# Altium integrated library FSC Logic Gate.IntLib: 323 symbols (part 7 of 8)
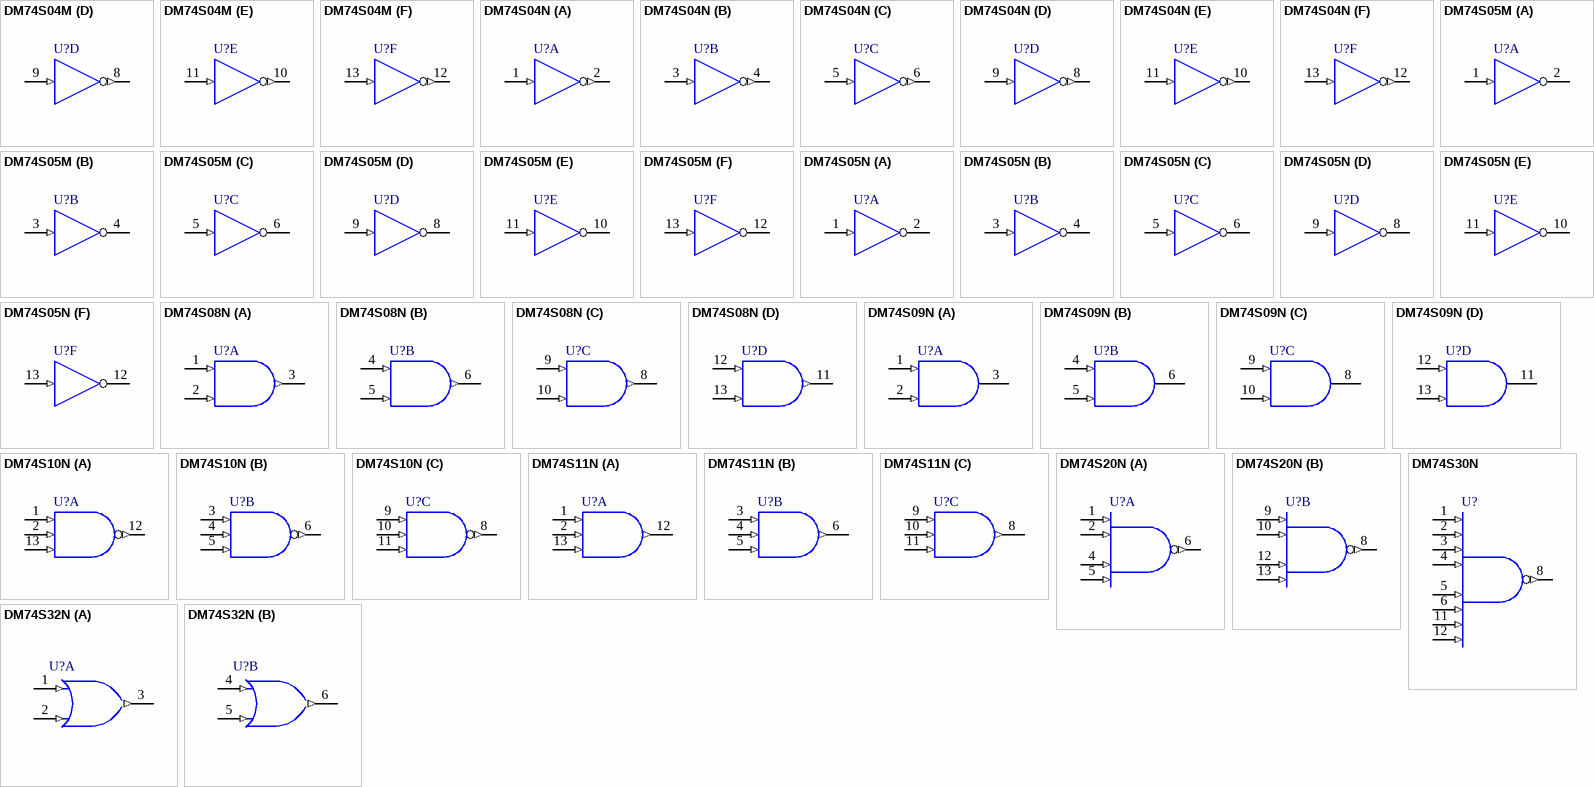
[diagram p37: symbols DM74S04M to DM74S32N]

## DM74S05N
designator U?
Hex Inverter with Open-Collector Output, 14-Pin PDIP; IC_Technology: S; Published: 17-Jul-2002; LatestRevisionDate: 29-May-2009; LatestRevisionNote: Component Body Added.; DatasheetVersion: Mar-1998; PackageVersion: 2000; PackageReference: N14A; Publisher: Altium Limited; PackageDescription: DIP, 14-Pin, Row Spacing 7.62 mm, Pitch 2.54 mm; ComponentLink1Description: Manufacturer Link; ComponentLink1URL: http://www.fairchildsemi.com/
footprint N14A (DIP, 14-Leads, Row Spacing 7.62mm, Pitch 2.54mm, Body 19.18x6.35mm)
3D model N14A (DIP, 14-Pin, Row Spacing 7.62 mm, Pitch 2.54 mm)
simulation model FSC_74LS05 (SIMCODE)
signal-integrity model DM74S05N
pins on every part: 7 GND (power) hidden to GND, 14 VCC (power) hidden to VCC
part A pins: 1 A (in), 2 Y (oc)
part B pins: 3 A (in), 4 Y (oc)
part C pins: 5 A (in), 6 Y (oc)
part D pins: 8 Y (oc), 9 A (in)
part E pins: 10 Y (oc), 11 A (in)
part F pins: 12 Y (oc), 13 A (in)

## DM74S08N
designator U?
Quad 2-Input AND Gate, 14-Pin PDIP; IC_Technology: S; Published: 17-Jul-2002; LatestRevisionDate: 29-May-2009; LatestRevisionNote: Component Body Added.; DatasheetVersion: Mar-1998; PackageVersion: 2000; PackageReference: N14A; Publisher: Altium Limited; PackageDescription: DIP, 14-Pin, Row Spacing 7.62 mm, Pitch 2.54 mm; ComponentLink1Description: Manufacturer Link; ComponentLink1URL: http://www.fairchildsemi.com/
footprint N14A (DIP, 14-Leads, Row Spacing 7.62mm, Pitch 2.54mm, Body 19.18x6.35mm)
3D model N14A (DIP, 14-Pin, Row Spacing 7.62 mm, Pitch 2.54 mm)
simulation model FSC_74LS08 (SIMCODE)
signal-integrity model DM74S08N
pins on every part: 7 GND (power) hidden to GND, 14 VCC (power) hidden to VCC
part A pins: 1 A (in), 2 B (in), 3 Y (out)
part B pins: 4 A (in), 5 B (in), 6 Y (out)
part C pins: 8 Y (out), 9 A (in), 10 B (in)
part D pins: 11 Y (out), 12 A (in), 13 B (in)

## DM74S09N
designator U?
Quad 2-Input AND Gate with Open-Collector Output, 14-Pin PDIP; IC_Technology: S; Published: 17-Jul-2002; LatestRevisionDate: 29-May-2009; LatestRevisionNote: Component Body Added.; DatasheetVersion: Mar-1998; PackageVersion: 2000; PackageReference: N14A; Publisher: Altium Limited; PackageDescription: DIP, 14-Pin, Row Spacing 7.62 mm, Pitch 2.54 mm; ComponentLink1Description: Manufacturer Link; ComponentLink1URL: http://www.fairchildsemi.com/
footprint N14A (DIP, 14-Leads, Row Spacing 7.62mm, Pitch 2.54mm, Body 19.18x6.35mm)
3D model N14A (DIP, 14-Pin, Row Spacing 7.62 mm, Pitch 2.54 mm)
simulation model FSC_74LS09 (SIMCODE)
signal-integrity model DM74S09N
pins on every part: 7 GND (power) hidden to GND, 14 VCC (power) hidden to VCC
part A pins: 1 A (in), 2 B (in), 3 Y (oc)
part B pins: 4 A (in), 5 B (in), 6 Y (oc)
part C pins: 8 Y (oc), 9 A (in), 10 B (in)
part D pins: 11 Y (oc), 12 A (in), 13 B (in)

## DM74S10N
designator U?
Triple 3-Input NAND Gate, 14-Pin PDIP; IC_Technology: S; Published: 17-Jul-2002; LatestRevisionDate: 29-May-2009; LatestRevisionNote: Component Body Added.; DatasheetVersion: Mar-1998; PackageVersion: 2000; PackageReference: N14A; Publisher: Altium Limited; PackageDescription: DIP, 14-Pin, Row Spacing 7.62 mm, Pitch 2.54 mm; ComponentLink1Description: Manufacturer Link; ComponentLink1URL: http://www.fairchildsemi.com/
footprint N14A (DIP, 14-Leads, Row Spacing 7.62mm, Pitch 2.54mm, Body 19.18x6.35mm)
3D model N14A (DIP, 14-Pin, Row Spacing 7.62 mm, Pitch 2.54 mm)
signal-integrity model DM74S10N
pins on every part: 7 GND (power) hidden to GND, 14 VCC (power) hidden to VCC
part A pins: 1 A (in), 2 B (in), 12 Y (out), 13 C (in)
part B pins: 3 A (in), 4 B (in), 5 C (in), 6 Y (out)
part C pins: 8 Y (out), 9 A (in), 10 B (in), 11 C (in)

## DM74S11N
designator U?
Triple 3-Input AND Gate, 14-Pin PDIP; IC_Technology: S; Published: 17-Jul-2002; LatestRevisionDate: 29-May-2009; LatestRevisionNote: Component Body Added.; DatasheetVersion: Mar-1998; PackageVersion: 2000; PackageReference: N14A; Publisher: Altium Limited; PackageDescription: DIP, 14-Pin, Row Spacing 7.62 mm, Pitch 2.54 mm; ComponentLink1Description: Manufacturer Link; ComponentLink1URL: http://www.fairchildsemi.com/
footprint N14A (DIP, 14-Leads, Row Spacing 7.62mm, Pitch 2.54mm, Body 19.18x6.35mm)
3D model N14A (DIP, 14-Pin, Row Spacing 7.62 mm, Pitch 2.54 mm)
simulation model FSC_74LS11 (SIMCODE)
signal-integrity model DM74S11N
pins on every part: 7 GND (power) hidden to GND, 14 VCC (power) hidden to VCC
part A pins: 1 A (in), 2 B (in), 12 Y (out), 13 C (in)
part B pins: 3 A (in), 4 B (in), 5 C (in), 6 Y (out)
part C pins: 8 Y (out), 9 A (in), 10 B (in), 11 C (in)

## DM74S20N
designator U?
Dual 4-Input NAND Gate, 14-Pin PDIP; IC_Technology: S; Note: Pins 3 and 11 are NC & not drawn.; Published: 17-Jul-2002; LatestRevisionDate: 29-May-2009; LatestRevisionNote: Component Body Added.; DatasheetVersion: Mar-1998; PackageVersion: 2000; PackageReference: N14A; Publisher: Altium Limited; PackageDescription: DIP, 14-Pin, Row Spacing 7.62 mm, Pitch 2.54 mm; ComponentLink1Description: Manufacturer Link; ComponentLink1URL: http://www.fairchildsemi.com/
footprint N14A (DIP, 14-Leads, Row Spacing 7.62mm, Pitch 2.54mm, Body 19.18x6.35mm)
3D model N14A (DIP, 14-Pin, Row Spacing 7.62 mm, Pitch 2.54 mm)
simulation model FSC_74LS20 (SIMCODE)
signal-integrity model DM74S20N
pins on every part: 7 GND (power) hidden to GND, 14 VCC (power) hidden to VCC
part A pins: 1 A (in), 2 B (in), 4 C (in), 5 D (in), 6 Y (out)
part B pins: 8 Y (out), 9 A (in), 10 B (in), 12 C (in), 13 D (in)

## DM74S30N
designator U?
8-Input NAND Gate, 14-Pin PDIP; IC_Technology: S; Note: Pins 9,10 and 13 are NC & not drawn.; Published: 17-Jul-2002; LatestRevisionDate: 29-May-2009; LatestRevisionNote: Component Body Added.; DatasheetVersion: Mar-1998; PackageVersion: 2000; PackageReference: N14A; Publisher: Altium Limited; PackageDescription: DIP, 14-Pin, Row Spacing 7.62 mm, Pitch 2.54 mm; ComponentLink1Description: Manufacturer Link; ComponentLink1URL: http://www.fairchildsemi.com/
footprint N14A (DIP, 14-Leads, Row Spacing 7.62mm, Pitch 2.54mm, Body 19.18x6.35mm)
3D model N14A (DIP, 14-Pin, Row Spacing 7.62 mm, Pitch 2.54 mm)
simulation model FSC_74LS30 (SIMCODE)
signal-integrity model DM74S30N
pins: 1 A (in), 2 B (in), 3 C (in), 4 D (in), 5 E (in), 6 F (in), 7 GND (power) hidden to GND, 8 Y (out), 11 G (in), 12 H (in), 14 VCC (power) hidden to VCC

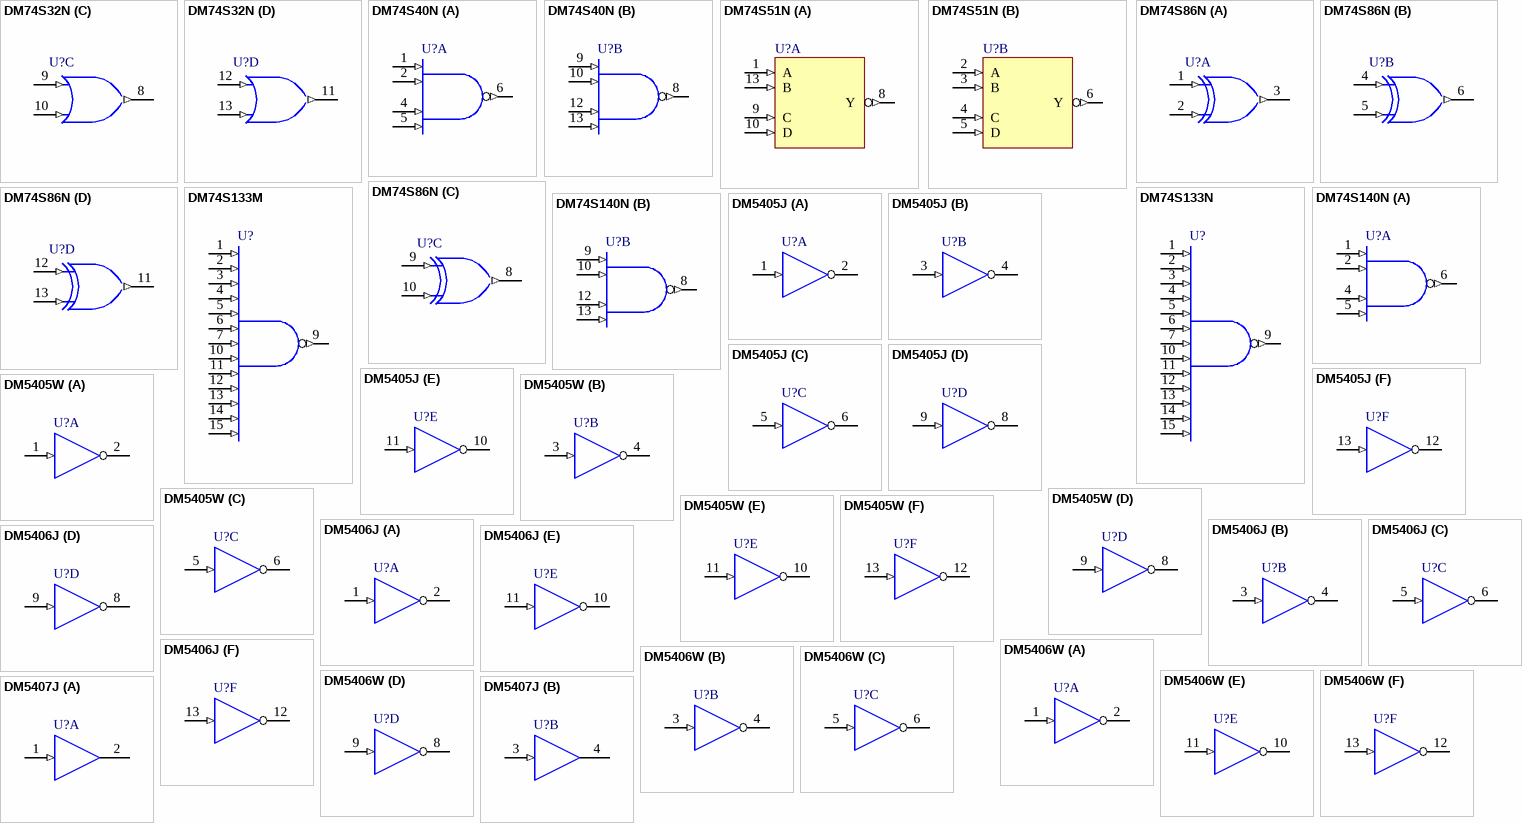
[diagram p28: symbols DM74S32N to DM5407J]

## DM74S32N
designator U?
Quad 2-Input OR Gate, 14-Pin PDIP; IC_Technology: S; Published: 17-Jul-2002; LatestRevisionDate: 29-May-2009; LatestRevisionNote: Component Body Added.; DatasheetVersion: Mar-1998; PackageVersion: 2000; PackageReference: N14A; Publisher: Altium Limited; PackageDescription: DIP, 14-Pin, Row Spacing 7.62 mm, Pitch 2.54 mm; ComponentLink1Description: Manufacturer Link; ComponentLink1URL: http://www.fairchildsemi.com/
footprint N14A (DIP, 14-Leads, Row Spacing 7.62mm, Pitch 2.54mm, Body 19.18x6.35mm)
3D model N14A (DIP, 14-Pin, Row Spacing 7.62 mm, Pitch 2.54 mm)
signal-integrity model DM74S32N
pins on every part: 7 GND (power) hidden to GND, 14 VCC (power) hidden to VCC
part A pins: 1 A (in), 2 B (in), 3 Y (out)
part B pins: 4 A (in), 5 B (in), 6 Y (out)
part C pins: 8 Y (out), 9 A (in), 10 B (in)
part D pins: 11 Y (out), 12 A (in), 13 B (in)

## DM74S40N
designator U?
Dual 4-Input NAND Buffer, 14-Pin PDIP; IC_Technology: S; Note: Pins 3 and 11 are NC & not drawn.; Published: 17-Jul-2002; LatestRevisionDate: 29-May-2009; LatestRevisionNote: Component Body Added.; DatasheetVersion: Mar-1998; PackageVersion: 2000; PackageReference: N14A; Publisher: Altium Limited; PackageDescription: DIP, 14-Pin, Row Spacing 7.62 mm, Pitch 2.54 mm; ComponentLink1Description: Manufacturer Link; ComponentLink1URL: http://www.fairchildsemi.com/
footprint N14A (DIP, 14-Leads, Row Spacing 7.62mm, Pitch 2.54mm, Body 19.18x6.35mm)
3D model N14A (DIP, 14-Pin, Row Spacing 7.62 mm, Pitch 2.54 mm)
signal-integrity model DM74S40N
pins on every part: 7 GND (power) hidden to GND, 14 VCC (power) hidden to VCC
part A pins: 1 A (in), 2 B (in), 4 C (in), 5 D (in), 6 Y (out)
part B pins: 8 Y (out), 9 A (in), 10 B (in), 12 C (in), 13 D (in)

## DM74S51N
designator U?
Dual 2-Wide 2-Input AND-OR Invert Gate, 14-Pin PDIP; IC_Technology: S; Note: Pins 11 and 12 are NC & not drawn; Published: 17-Jul-2002; LatestRevisionDate: 29-May-2009; LatestRevisionNote: Component Body Added.; DatasheetVersion: Mar-1998; PackageVersion: 2000; PackageReference: N14A; Publisher: Altium Limited; PackageDescription: DIP, 14-Pin, Row Spacing 7.62 mm, Pitch 2.54 mm; ComponentLink1Description: Manufacturer Link; ComponentLink1URL: http://www.fairchildsemi.com/
footprint N14A (DIP, 14-Leads, Row Spacing 7.62mm, Pitch 2.54mm, Body 19.18x6.35mm)
3D model N14A (DIP, 14-Pin, Row Spacing 7.62 mm, Pitch 2.54 mm)
signal-integrity model DM74S51N
pins on every part: 7 GND (power) hidden to GND, 14 VCC (power) hidden to VCC
part A pins: 1 A (in), 8 Y (out), 9 C (in), 10 D (in), 13 B (in)
part B pins: 2 A (in), 3 B (in), 4 C (in), 5 D (in), 6 Y (out)

## DM74S86N
designator U?
Quad 2-Input XOR Gate, 14-Pin PDIP; IC_Technology: S; Published: 17-Jul-2002; LatestRevisionDate: 29-May-2009; LatestRevisionNote: Component Body Added.; DatasheetVersion: Mar-1998; PackageVersion: 2000; PackageReference: N14A; Publisher: Altium Limited; PackageDescription: DIP, 14-Pin, Row Spacing 7.62 mm, Pitch 2.54 mm; ComponentLink1Description: Manufacturer Link; ComponentLink1URL: http://www.fairchildsemi.com/
footprint N14A (DIP, 14-Leads, Row Spacing 7.62mm, Pitch 2.54mm, Body 19.18x6.35mm)
3D model N14A (DIP, 14-Pin, Row Spacing 7.62 mm, Pitch 2.54 mm)
simulation model FSC_74LS86 (SIMCODE)
signal-integrity model DM74S86N
pins on every part: 7 GND (power) hidden to GND, 14 VCC (power) hidden to VCC
part A pins: 1 A (in), 2 B (in), 3 Y (out)
part B pins: 4 A (in), 5 B (in), 6 Y (out)
part C pins: 8 Y (out), 9 A (in), 10 B (in)
part D pins: 11 Y (out), 12 A (in), 13 B (in)

## DM74S133M
designator U?
13-Input NAND Gate, 16-Pin SOIC; IC_Technology: S; Published: 17-Jul-2002; LatestRevisionDate: 13-Apr-2006; LatestRevisionNote: IPC-7351 Footprint Added.; DatasheetVersion: Mar-1998; PackageVersion: 2000; PackageReference: M16A; Publisher: Altium Limited; PackageDescription: 16-Pin Small Outline Integrated Circuit 1.27 mm Pitch; Code_IPC: SOIC127P600-16; ComponentLink1Description: Manufacturer Link; ComponentLink1URL: http://www.fairchildsemi.com/
footprint M16A_N (SOIC, 16-Leads, Body 9.9x3.9mm, Pitch 1.27mm, IPC Medium Density)
footprint M16A_L (SOIC, 16-Leads, Body 9.9x3.9mm, Pitch 1.27mm, IPC High Density)
footprint M16A_M (SOIC, 16-Leads, Body 9.9x3.9mm, Pitch 1.27mm, IPC Low Density)
3D model M16A (16-Pin Small Outline Integrated Circuit 1.27 mm Pitch)
simulation model FSC_74S133 (SIMCODE)
signal-integrity model DM74S133M
pins: 1 A (in), 2 B (in), 3 C (in), 4 D (in), 5 E (in), 6 F (in), 7 G (in), 8 GND (power) hidden to GND, 9 Y (out), 10 H (in), 11 I (in), 12 J (in), 13 K (in), 14 L (in), 15 M (in), 16 VCC (power) hidden to VCC

## DM74S133N
designator U?
13-Input NAND Gate, 16-Pin PDIP; IC_Technology: S; Published: 17-Jul-2002; LatestRevisionDate: 29-May-2009; LatestRevisionNote: Component Body Added.; DatasheetVersion: Mar-1998; PackageVersion: 2000; PackageReference: N16E; Publisher: Altium Limited; PackageDescription: DIP, 16-Pin, Row Spacing 7.62 mm, Pitch 2.54 mm; ComponentLink1Description: Manufacturer Link; ComponentLink1URL: http://www.fairchildsemi.com/
footprint N16E (DIP, 16-Leads, Row Spacing 7.62mm, Pitch 2.54mm, Body 19.3x6.35mm)
3D model J16A (DIP, 16-Pin, Row Spacing 7.62 mm, Pitch 2.54 mm)
simulation model FSC_74S133 (SIMCODE)
signal-integrity model DM74S133N
pins: 1 A (in), 2 B (in), 3 C (in), 4 D (in), 5 E (in), 6 F (in), 7 G (in), 8 GND (power) hidden to GND, 9 Y (out), 10 H (in), 11 I (in), 12 J (in), 13 K (in), 14 L (in), 15 M (in), 16 VCC (power) hidden to VCC

## DM74S140N
designator U?
Dual 4-Input NAND 50-Ohm Line Driver, 14-Pin PDIP; IC_Technology: S; Note: Pins 3 and 11 are NC & not drawn.; Published: 17-Jul-2002; LatestRevisionDate: 29-May-2009; LatestRevisionNote: Component Body Added.; DatasheetVersion: Mar-1998; PackageVersion: 2000; PackageReference: N14A; Publisher: Altium Limited; PackageDescription: DIP, 14-Pin, Row Spacing 7.62 mm, Pitch 2.54 mm; ComponentLink1Description: Manufacturer Link; ComponentLink1URL: http://www.fairchildsemi.com/
footprint N14A (DIP, 14-Leads, Row Spacing 7.62mm, Pitch 2.54mm, Body 19.18x6.35mm)
3D model N14A (DIP, 14-Pin, Row Spacing 7.62 mm, Pitch 2.54 mm)
signal-integrity model DM74S140N
pins on every part: 7 GND (power) hidden to GND, 14 VCC (power) hidden to VCC
part A pins: 1 A (in), 2 B (in), 4 C (in), 5 D (in), 6 Y (out)
part B pins: 8 Y (out), 9 A (in), 10 B (in), 12 C (in), 13 D (in)

## DM5405J
designator U?
Hex Inverter with Open-Collector Output, 14-Pin CDIP, Military Grade; IC_Technology: TTL; Published: 17-Jul-2002; LatestRevisionDate: 29-May-2009; LatestRevisionNote: Component Body Added.; DatasheetVersion: Mar-1998; PackageVersion: 2000; PackageReference: J14A; Publisher: Altium Limited; PackageDescription: CerDIP, 14-Pin, Row Spacing 7.62 mm, Pitch 2.54 mm; ComponentLink1Description: Manufacturer Link; ComponentLink1URL: http://www.fairchildsemi.com/
footprint J14A (DIP, 14-Leads, Row Spacing 7.62mm, Pitch 2.54mm, Body 19.56x6.73mm)
3D model J14A (CerDIP, 14-Pin, Row Spacing 7.62 mm, Pitch 2.54 mm)
simulation model FSC_74LS05 (SIMCODE)
signal-integrity model DM5405J
pins on every part: 7 GND (power) hidden to GND, 14 VCC (power) hidden to VCC
part A pins: 1 A (in), 2 Y (oc)
part B pins: 3 A (in), 4 Y (oc)
part C pins: 5 A (in), 6 Y (oc)
part D pins: 8 Y (oc), 9 A (in)
part E pins: 10 Y (oc), 11 A (in)
part F pins: 12 Y (oc), 13 A (in)

## DM5405W
designator U?
Hex Inverter with Open-Collector Output, 14-Pin DFP, Military Grade; IC_Technology: TTL; Published: 17-Jul-2002; LatestRevisionDate: 04-Mar-2005; LatestRevisionNote: Stylized 3D Model Added.; DatasheetVersion: Mar-1998; PackageVersion: 2000; PackageReference: W14B; Publisher: Altium Limited; PackageDescription: DFP; 14 Leads; Body 9.8 x 7.1 mm (LxW max); Pitch 1.27 mm; ComponentLink1Description: Manufacturer Link; ComponentLink1URL: http://www.fairchildsemi.com/
footprint W14B (DFP; 14 Leads; Body 9.8 x 7.1 mm (LxW max); Pitch 1.27 mm)
3D model W14B (DFP; 14 Leads; Body 9.8 x 7.1 mm (LxW max); Pitch 1.27 mm)
simulation model FSC_74LS05 (SIMCODE)
signal-integrity model DM5405W
pins on every part: 7 GND (power) hidden to GND, 14 VCC (power) hidden to VCC
part A pins: 1 A (in), 2 Y (oc)
part B pins: 3 A (in), 4 Y (oc)
part C pins: 5 A (in), 6 Y (oc)
part D pins: 8 Y (oc), 9 A (in)
part E pins: 10 Y (oc), 11 A (in)
part F pins: 12 Y (oc), 13 A (in)

## DM5406J
designator U?
Hex Inverting Buffers with High-Voltage Open-Collector Outputs, 14-Pin CDIP, Military Grade; IC_Technology: TTL; Published: 17-Jul-2002; LatestRevisionDate: 29-May-2009; LatestRevisionNote: Component Body Added.; DatasheetVersion: Mar-1998; PackageVersion: 2000; PackageReference: J14A; Publisher: Altium Limited; PackageDescription: CerDIP, 14-Pin, Row Spacing 7.62 mm, Pitch 2.54 mm; ComponentLink1Description: Manufacturer Link; ComponentLink1URL: http://www.fairchildsemi.com/
footprint J14A (DIP, 14-Leads, Row Spacing 7.62mm, Pitch 2.54mm, Body 19.56x6.73mm)
3D model J14A (CerDIP, 14-Pin, Row Spacing 7.62 mm, Pitch 2.54 mm)
simulation model FSC_7406 (SIMCODE)
signal-integrity model DM5406J
pins on every part: 7 GND (power) hidden to GND, 14 VCC (power) hidden to VCC
part A pins: 1 A (in), 2 Y (oc)
part B pins: 3 A (in), 4 Y (oc)
part C pins: 5 A (in), 6 Y (oc)
part D pins: 8 Y (oc), 9 A (in)
part E pins: 10 Y (oc), 11 A (in)
part F pins: 12 Y (oc), 13 A (in)

## DM5406W
designator U?
Hex Inverting Buffers with High-Voltage Open-Collector Outputs, 14-Pin DFP, Military Grade; IC_Technology: TTL; Published: 17-Jul-2002; LatestRevisionDate: 04-Mar-2005; LatestRevisionNote: Stylized 3D Model Added.; DatasheetVersion: Mar-1998; PackageVersion: 2000; PackageReference: W14B; Publisher: Altium Limited; PackageDescription: DFP; 14 Leads; Body 9.8 x 7.1 mm (LxW max); Pitch 1.27 mm; ComponentLink1Description: Manufacturer Link; ComponentLink1URL: http://www.fairchildsemi.com/
footprint W14B (DFP; 14 Leads; Body 9.8 x 7.1 mm (LxW max); Pitch 1.27 mm)
3D model W14B (DFP; 14 Leads; Body 9.8 x 7.1 mm (LxW max); Pitch 1.27 mm)
simulation model FSC_7406 (SIMCODE)
signal-integrity model DM5406W
pins on every part: 7 GND (power) hidden to GND, 14 VCC (power) hidden to VCC
part A pins: 1 A (in), 2 Y (oc)
part B pins: 3 A (in), 4 Y (oc)
part C pins: 5 A (in), 6 Y (oc)
part D pins: 8 Y (oc), 9 A (in)
part E pins: 10 Y (oc), 11 A (in)
part F pins: 12 Y (oc), 13 A (in)

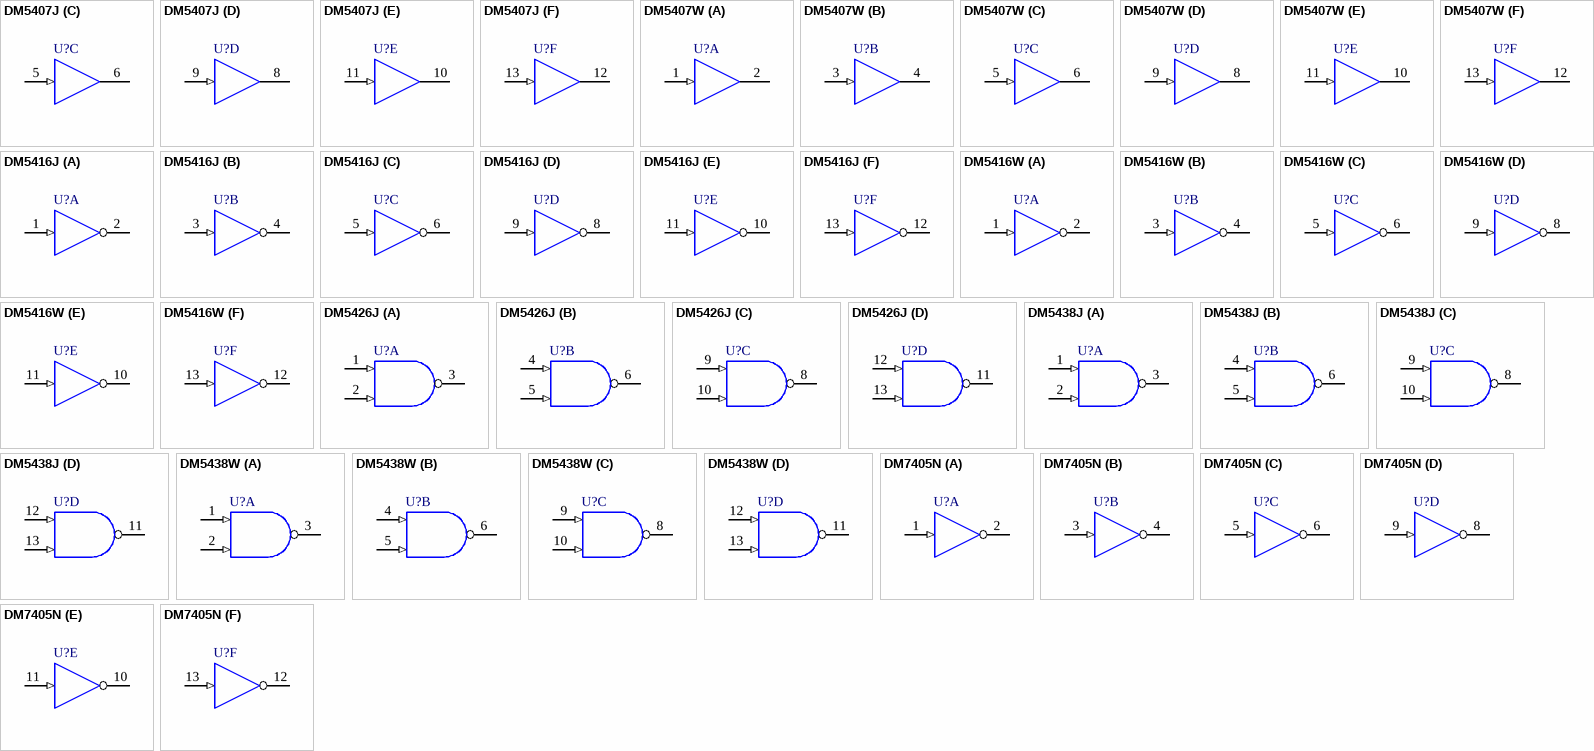
[diagram p29: symbols DM5407J to DM7405N]

## DM5407J
designator U?
Hex Buffer with High-Voltage Open-Collector Outputs, 14-Pin CDIP, Military Grade; IC_Technology: TTL; Published: 17-Jul-2002; LatestRevisionDate: 29-May-2009; LatestRevisionNote: Component Body Added.; DatasheetVersion: Mar-1998; PackageVersion: 2000; PackageReference: J14A; Publisher: Altium Limited; PackageDescription: CerDIP, 14-Pin, Row Spacing 7.62 mm, Pitch 2.54 mm; ComponentLink1Description: Manufacturer Link; ComponentLink1URL: http://www.fairchildsemi.com/
footprint J14A (DIP, 14-Leads, Row Spacing 7.62mm, Pitch 2.54mm, Body 19.56x6.73mm)
3D model J14A (CerDIP, 14-Pin, Row Spacing 7.62 mm, Pitch 2.54 mm)
simulation model FSC_7407 (SIMCODE)
signal-integrity model DM5407J
pins on every part: 7 GND (power) hidden to GND, 14 VCC (power) hidden to VCC
part A pins: 1 A (in), 2 Y (oc)
part B pins: 3 A (in), 4 Y (oc)
part C pins: 5 A (in), 6 Y (oc)
part D pins: 8 Y (oc), 9 A (in)
part E pins: 10 Y (oc), 11 A (in)
part F pins: 12 Y (oc), 13 A (in)

## DM5407W
designator U?
Hex Buffer with High-Voltage Open-Collector Outputs, 14-Pin DFP, Military Grade; IC_Technology: TTL; Published: 17-Jul-2002; LatestRevisionDate: 04-Mar-2005; LatestRevisionNote: Stylized 3D Model Added.; DatasheetVersion: Mar-1998; PackageVersion: 2000; PackageReference: W14B; Publisher: Altium Limited; PackageDescription: DFP; 14 Leads; Body 9.8 x 7.1 mm (LxW max); Pitch 1.27 mm; ComponentLink1Description: Manufacturer Link; ComponentLink1URL: http://www.fairchildsemi.com/
footprint W14B (DFP; 14 Leads; Body 9.8 x 7.1 mm (LxW max); Pitch 1.27 mm)
3D model W14B (DFP; 14 Leads; Body 9.8 x 7.1 mm (LxW max); Pitch 1.27 mm)
simulation model FSC_7407 (SIMCODE)
signal-integrity model DM5407W
pins on every part: 7 GND (power) hidden to GND, 14 VCC (power) hidden to VCC
part A pins: 1 A (in), 2 Y (oc)
part B pins: 3 A (in), 4 Y (oc)
part C pins: 5 A (in), 6 Y (oc)
part D pins: 8 Y (oc), 9 A (in)
part E pins: 10 Y (oc), 11 A (in)
part F pins: 12 Y (oc), 13 A (in)

## DM5416J
designator U?
Hex Inverting Buffers with High-Voltage Open-Collector Outputs, 14-Pin CDIP, Military Grade; IC_Technology: TTL; Published: 17-Jul-2002; LatestRevisionDate: 29-May-2009; LatestRevisionNote: Component Body Added.; DatasheetVersion: Mar-1998; PackageVersion: 2000; PackageReference: J14A; Publisher: Altium Limited; PackageDescription: CerDIP, 14-Pin, Row Spacing 7.62 mm, Pitch 2.54 mm; ComponentLink1Description: Manufacturer Link; ComponentLink1URL: http://www.fairchildsemi.com/
footprint J14A (DIP, 14-Leads, Row Spacing 7.62mm, Pitch 2.54mm, Body 19.56x6.73mm)
3D model J14A (CerDIP, 14-Pin, Row Spacing 7.62 mm, Pitch 2.54 mm)
simulation model FSC_7406 (SIMCODE)
signal-integrity model DM5416J
pins on every part: 7 GND (power) hidden to GND, 14 VCC (power) hidden to VCC
part A pins: 1 A (in), 2 Y (oc)
part B pins: 3 A (in), 4 Y (oc)
part C pins: 5 A (in), 6 Y (oc)
part D pins: 8 Y (oc), 9 A (in)
part E pins: 10 Y (oc), 11 A (in)
part F pins: 12 Y (oc), 13 A (in)

## DM5416W
designator U?
Hex Inverting Buffers with High-Voltage Open-Collector Outputs, 14-Pin DFP, Military Grade; IC_Technology: TTL; Published: 17-Jul-2002; LatestRevisionDate: 04-Mar-2005; LatestRevisionNote: Stylized 3D Model Added.; DatasheetVersion: Mar-1998; PackageVersion: 2000; PackageReference: W14B; Publisher: Altium Limited; PackageDescription: DFP; 14 Leads; Body 9.8 x 7.1 mm (LxW max); Pitch 1.27 mm; ComponentLink1Description: Manufacturer Link; ComponentLink1URL: http://www.fairchildsemi.com/
footprint W14B (DFP; 14 Leads; Body 9.8 x 7.1 mm (LxW max); Pitch 1.27 mm)
3D model W14B (DFP; 14 Leads; Body 9.8 x 7.1 mm (LxW max); Pitch 1.27 mm)
simulation model FSC_7406 (SIMCODE)
signal-integrity model DM5416W
pins on every part: 7 GND (power) hidden to GND, 14 VCC (power) hidden to VCC
part A pins: 1 A (in), 2 Y (oc)
part B pins: 3 A (in), 4 Y (oc)
part C pins: 5 A (in), 6 Y (oc)
part D pins: 8 Y (oc), 9 A (in)
part E pins: 10 Y (oc), 11 A (in)
part F pins: 12 Y (oc), 13 A (in)

## DM5426J
designator U?
Quad 2-Input NAND Gate with High-Voltage Open-Collector Output, 14-Pin CDIP, Military Grade; IC_Technology: TTL; Published: 17-Jul-2002; LatestRevisionDate: 29-May-2009; LatestRevisionNote: Component Body Added.; DatasheetVersion: Mar-1998; PackageVersion: 2000; PackageReference: J14A; Publisher: Altium Limited; PackageDescription: CerDIP, 14-Pin, Row Spacing 7.62 mm, Pitch 2.54 mm; ComponentLink1Description: Manufacturer Link; ComponentLink1URL: http://www.fairchildsemi.com/
footprint J14A (DIP, 14-Leads, Row Spacing 7.62mm, Pitch 2.54mm, Body 19.56x6.73mm)
3D model J14A (CerDIP, 14-Pin, Row Spacing 7.62 mm, Pitch 2.54 mm)
simulation model FSC_74LS26 (SIMCODE)
signal-integrity model DM5426J
pins on every part: 7 GND (power) hidden to GND, 14 VCC (power) hidden to VCC
part A pins: 1 A (in), 2 B (in), 3 Y (oc)
part B pins: 4 A (in), 5 B (in), 6 Y (oc)
part C pins: 8 Y (oc), 9 A (in), 10 B (in)
part D pins: 11 Y (oc), 12 A (in), 13 B (in)

## DM5438J
designator U?
Quad 2-Input NAND Buffer with Open-Collector Output, 14-Pin CDIP, Military Grade; IC_Technology: TTL; Published: 17-Jul-2002; LatestRevisionDate: 29-May-2009; LatestRevisionNote: Component Body Added.; DatasheetVersion: Mar-1998; PackageVersion: 2000; PackageReference: J14A; Publisher: Altium Limited; PackageDescription: CerDIP, 14-Pin, Row Spacing 7.62 mm, Pitch 2.54 mm; ComponentLink1Description: Manufacturer Link; ComponentLink1URL: http://www.fairchildsemi.com/
footprint J14A (DIP, 14-Leads, Row Spacing 7.62mm, Pitch 2.54mm, Body 19.56x6.73mm)
3D model J14A (CerDIP, 14-Pin, Row Spacing 7.62 mm, Pitch 2.54 mm)
simulation model FSC_74LS38 (SIMCODE)
signal-integrity model DM5438J
pins on every part: 7 GND (power) hidden to GND, 14 VCC (power) hidden to VCC
part A pins: 1 A (in), 2 B (in), 3 Y (oc)
part B pins: 4 A (in), 5 B (in), 6 Y (oc)
part C pins: 8 Y (oc), 9 A (in), 10 B (in)
part D pins: 11 Y (oc), 12 A (in), 13 B (in)

## DM5438W
designator U?
Quad 2-Input NAND Buffer with Open-Collector Output, 14-Pin DFP, Military Grade; IC_Technology: TTL; Published: 17-Jul-2002; LatestRevisionDate: 04-Mar-2005; LatestRevisionNote: Stylized 3D Model Added.; DatasheetVersion: Mar-1998; PackageVersion: 2000; PackageReference: W14B; Publisher: Altium Limited; PackageDescription: DFP; 14 Leads; Body 9.8 x 7.1 mm (LxW max); Pitch 1.27 mm; ComponentLink1Description: Manufacturer Link; ComponentLink1URL: http://www.fairchildsemi.com/
footprint W14B (DFP; 14 Leads; Body 9.8 x 7.1 mm (LxW max); Pitch 1.27 mm)
3D model W14B (DFP; 14 Leads; Body 9.8 x 7.1 mm (LxW max); Pitch 1.27 mm)
simulation model FSC_74LS38 (SIMCODE)
signal-integrity model DM5438W
pins on every part: 7 GND (power) hidden to GND, 14 VCC (power) hidden to VCC
part A pins: 1 A (in), 2 B (in), 3 Y (oc)
part B pins: 4 A (in), 5 B (in), 6 Y (oc)
part C pins: 8 Y (oc), 9 A (in), 10 B (in)
part D pins: 11 Y (oc), 12 A (in), 13 B (in)

## DM7405N
designator U?
Hex Inverter with Open-Collector Output, 14-Pin PDIP; IC_Technology: TTL; Published: 17-Jul-2002; LatestRevisionDate: 29-May-2009; LatestRevisionNote: Component Body Added.; DatasheetVersion: Mar-1998; PackageVersion: 2000; PackageReference: N14A; Publisher: Altium Limited; PackageDescription: DIP, 14-Pin, Row Spacing 7.62 mm, Pitch 2.54 mm; ComponentLink1Description: Manufacturer Link; ComponentLink1URL: http://www.fairchildsemi.com/
footprint N14A (DIP, 14-Leads, Row Spacing 7.62mm, Pitch 2.54mm, Body 19.18x6.35mm)
3D model N14A (DIP, 14-Pin, Row Spacing 7.62 mm, Pitch 2.54 mm)
simulation model FSC_74LS05 (SIMCODE)
signal-integrity model DM7405N
pins on every part: 7 GND (power) hidden to GND, 14 VCC (power) hidden to VCC
part A pins: 1 A (in), 2 Y (oc)
part B pins: 3 A (in), 4 Y (oc)
part C pins: 5 A (in), 6 Y (oc)
part D pins: 8 Y (oc), 9 A (in)
part E pins: 10 Y (oc), 11 A (in)
part F pins: 12 Y (oc), 13 A (in)

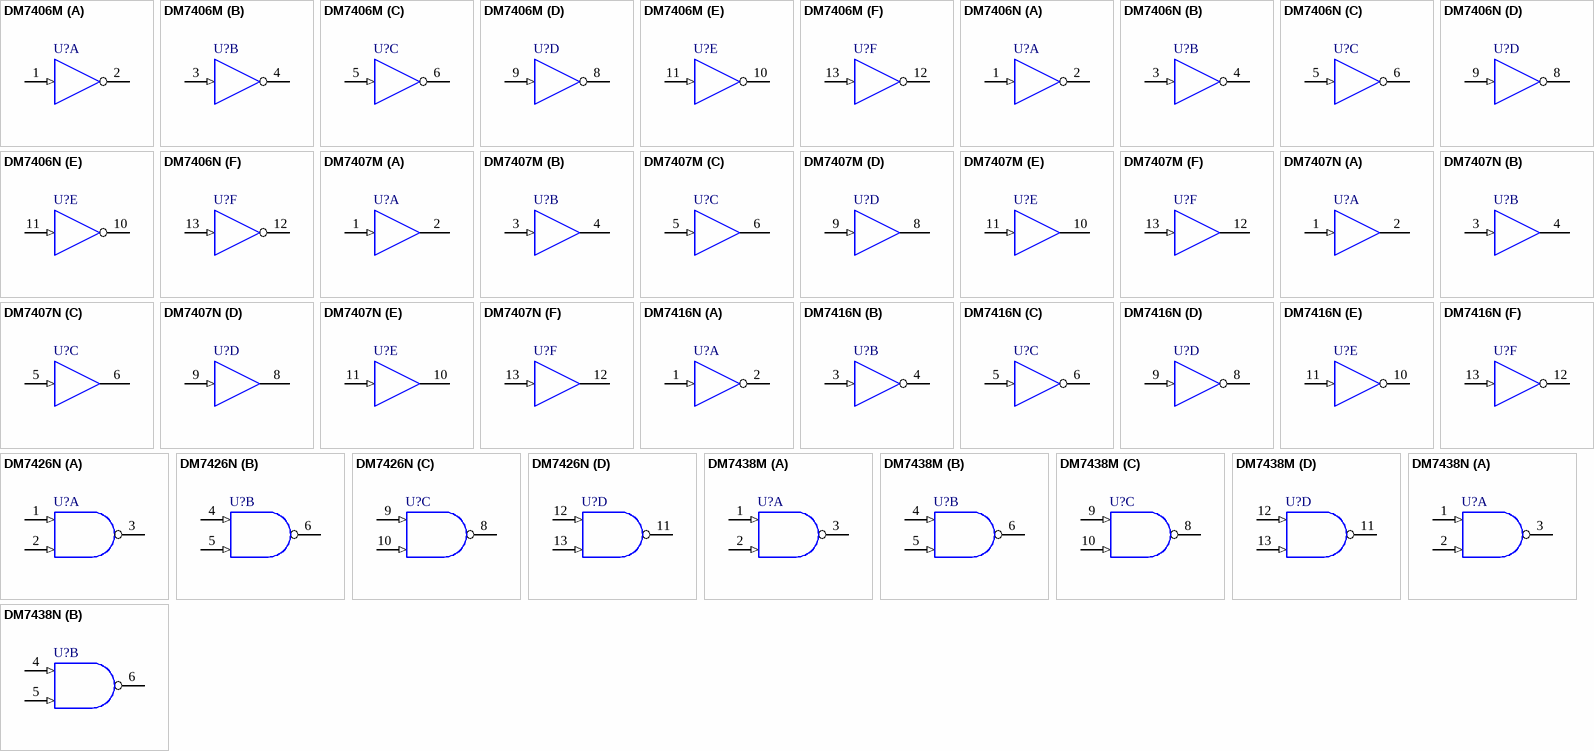
[diagram p30: symbols DM7406M to DM7438N]

## DM7406M
designator U?
Hex Inverting Buffers with High-Voltage Open-Collector Outputs, 14-Pin SOIC; IC_Technology: TTL; Published: 17-Jul-2002; LatestRevisionDate: 13-Apr-2006; LatestRevisionNote: IPC-7351 Footprint Added.; DatasheetVersion: Mar-1998; PackageVersion: 2000; PackageReference: M14A; Publisher: Altium Limited; PackageDescription: 14-Pin Small Outline Integrated Circuit 1.27 mm Pitch; Code_IPC: SOIC127P600-14; ComponentLink1Description: Manufacturer Link; ComponentLink1URL: http://www.fairchildsemi.com/
footprint M14A_N (SOIC, 14-Leads, Body 8.6x3.9mm, Pitch 1.27mm, IPC Medium Density)
footprint M14A_L (SOIC, 14-Leads, Body 8.6x3.9mm, Pitch 1.27mm, IPC High Density)
footprint M14A_M (SOIC, 14-Leads, Body 8.6x3.9mm, Pitch 1.27mm, IPC Low Density)
3D model M14A (14-Pin Small Outline Integrated Circuit 1.27 mm Pitch)
simulation model FSC_7406 (SIMCODE)
signal-integrity model DM7406M
pins on every part: 7 GND (power) hidden to GND, 14 VCC (power) hidden to VCC
part A pins: 1 A (in), 2 Y (oc)
part B pins: 3 A (in), 4 Y (oc)
part C pins: 5 A (in), 6 Y (oc)
part D pins: 8 Y (oc), 9 A (in)
part E pins: 10 Y (oc), 11 A (in)
part F pins: 12 Y (oc), 13 A (in)

## DM7406N
designator U?
Hex Inverting Buffers with High-Voltage Open-Collector Outputs, 14-Pin PDIP; IC_Technology: TTL; Published: 17-Jul-2002; LatestRevisionDate: 29-May-2009; LatestRevisionNote: Component Body Added.; DatasheetVersion: Mar-1998; PackageVersion: 2000; PackageReference: N14A; Publisher: Altium Limited; PackageDescription: DIP, 14-Pin, Row Spacing 7.62 mm, Pitch 2.54 mm; ComponentLink1Description: Manufacturer Link; ComponentLink1URL: http://www.fairchildsemi.com/
footprint N14A (DIP, 14-Leads, Row Spacing 7.62mm, Pitch 2.54mm, Body 19.18x6.35mm)
3D model N14A (DIP, 14-Pin, Row Spacing 7.62 mm, Pitch 2.54 mm)
simulation model FSC_7406 (SIMCODE)
signal-integrity model DM7406N
pins on every part: 7 GND (power) hidden to GND, 14 VCC (power) hidden to VCC
part A pins: 1 A (in), 2 Y (oc)
part B pins: 3 A (in), 4 Y (oc)
part C pins: 5 A (in), 6 Y (oc)
part D pins: 8 Y (oc), 9 A (in)
part E pins: 10 Y (oc), 11 A (in)
part F pins: 12 Y (oc), 13 A (in)

## DM7407M
designator U?
Hex Buffer with High-Voltage Open-Collector Outputs, 14-Pin SOIC; IC_Technology: TTL; Published: 17-Jul-2002; LatestRevisionDate: 13-Apr-2006; LatestRevisionNote: IPC-7351 Footprint Added.; DatasheetVersion: Mar-1998; PackageVersion: 2000; PackageReference: M14A; Publisher: Altium Limited; PackageDescription: 14-Pin Small Outline Integrated Circuit 1.27 mm Pitch; Code_IPC: SOIC127P600-14; ComponentLink1Description: Manufacturer Link; ComponentLink1URL: http://www.fairchildsemi.com/
footprint M14A_N (SOIC, 14-Leads, Body 8.6x3.9mm, Pitch 1.27mm, IPC Medium Density)
footprint M14A_L (SOIC, 14-Leads, Body 8.6x3.9mm, Pitch 1.27mm, IPC High Density)
footprint M14A_M (SOIC, 14-Leads, Body 8.6x3.9mm, Pitch 1.27mm, IPC Low Density)
3D model M14A (14-Pin Small Outline Integrated Circuit 1.27 mm Pitch)
simulation model FSC_7407 (SIMCODE)
signal-integrity model DM7407M
pins on every part: 7 GND (power) hidden to GND, 14 VCC (power) hidden to VCC
part A pins: 1 A (in), 2 Y (oc)
part B pins: 3 A (in), 4 Y (oc)
part C pins: 5 A (in), 6 Y (oc)
part D pins: 8 Y (oc), 9 A (in)
part E pins: 10 Y (oc), 11 A (in)
part F pins: 12 Y (oc), 13 A (in)

## DM7407N
designator U?
Hex Buffer with High-Voltage Open-Collector Outputs, 14-Pin PDIP; IC_Technology: TTL; Published: 17-Jul-2002; LatestRevisionDate: 29-May-2009; LatestRevisionNote: Component Body Added.; DatasheetVersion: Mar-1998; PackageVersion: 2000; PackageReference: N14A; Publisher: Altium Limited; PackageDescription: DIP, 14-Pin, Row Spacing 7.62 mm, Pitch 2.54 mm; ComponentLink1Description: Manufacturer Link; ComponentLink1URL: http://www.fairchildsemi.com/
footprint N14A (DIP, 14-Leads, Row Spacing 7.62mm, Pitch 2.54mm, Body 19.18x6.35mm)
3D model N14A (DIP, 14-Pin, Row Spacing 7.62 mm, Pitch 2.54 mm)
simulation model FSC_7407 (SIMCODE)
signal-integrity model DM7407N
pins on every part: 7 GND (power) hidden to GND, 14 VCC (power) hidden to VCC
part A pins: 1 A (in), 2 Y (oc)
part B pins: 3 A (in), 4 Y (oc)
part C pins: 5 A (in), 6 Y (oc)
part D pins: 8 Y (oc), 9 A (in)
part E pins: 10 Y (oc), 11 A (in)
part F pins: 12 Y (oc), 13 A (in)

## DM7416N
designator U?
Hex Inverting Buffers with High-Voltage Open-Collector Outputs, 14-Pin PDIP; IC_Technology: TTL; Published: 17-Jul-2002; LatestRevisionDate: 29-May-2009; LatestRevisionNote: Component Body Added.; DatasheetVersion: Mar-1998; PackageVersion: 2000; PackageReference: N14A; Publisher: Altium Limited; PackageDescription: DIP, 14-Pin, Row Spacing 7.62 mm, Pitch 2.54 mm; ComponentLink1Description: Manufacturer Link; ComponentLink1URL: http://www.fairchildsemi.com/
footprint N14A (DIP, 14-Leads, Row Spacing 7.62mm, Pitch 2.54mm, Body 19.18x6.35mm)
3D model N14A (DIP, 14-Pin, Row Spacing 7.62 mm, Pitch 2.54 mm)
simulation model FSC_7406 (SIMCODE)
signal-integrity model DM7416N
pins on every part: 7 GND (power) hidden to GND, 14 VCC (power) hidden to VCC
part A pins: 1 A (in), 2 Y (oc)
part B pins: 3 A (in), 4 Y (oc)
part C pins: 5 A (in), 6 Y (oc)
part D pins: 8 Y (oc), 9 A (in)
part E pins: 10 Y (oc), 11 A (in)
part F pins: 12 Y (oc), 13 A (in)

## DM7426N
designator U?
Quad 2-Input NAND Gate with High-Voltage Open-Collector Output, 14-Pin PDIP; IC_Technology: TTL; Published: 17-Jul-2002; LatestRevisionDate: 29-May-2009; LatestRevisionNote: Component Body Added.; DatasheetVersion: Mar-1998; PackageVersion: 2000; PackageReference: N14A; Publisher: Altium Limited; PackageDescription: DIP, 14-Pin, Row Spacing 7.62 mm, Pitch 2.54 mm; ComponentLink1Description: Manufacturer Link; ComponentLink1URL: http://www.fairchildsemi.com/
footprint N14A (DIP, 14-Leads, Row Spacing 7.62mm, Pitch 2.54mm, Body 19.18x6.35mm)
3D model N14A (DIP, 14-Pin, Row Spacing 7.62 mm, Pitch 2.54 mm)
simulation model FSC_74LS26 (SIMCODE)
signal-integrity model DM7426N
pins on every part: 7 GND (power) hidden to GND, 14 VCC (power) hidden to VCC
part A pins: 1 A (in), 2 B (in), 3 Y (oc)
part B pins: 4 A (in), 5 B (in), 6 Y (oc)
part C pins: 8 Y (oc), 9 A (in), 10 B (in)
part D pins: 11 Y (oc), 12 A (in), 13 B (in)

## DM7438M
designator U?
Quad 2-Input NAND Buffer with Open-Collector Output, 14-Pin SOIC; IC_Technology: TTL; Published: 17-Jul-2002; LatestRevisionDate: 13-Apr-2006; LatestRevisionNote: IPC-7351 Footprint Added.; DatasheetVersion: Mar-1998; PackageVersion: 2000; PackageReference: M14A; Publisher: Altium Limited; PackageDescription: 14-Pin Small Outline Integrated Circuit 1.27 mm Pitch; Code_IPC: SOIC127P600-14; ComponentLink1Description: Manufacturer Link; ComponentLink1URL: http://www.fairchildsemi.com/
footprint M14A_N (SOIC, 14-Leads, Body 8.6x3.9mm, Pitch 1.27mm, IPC Medium Density)
footprint M14A_L (SOIC, 14-Leads, Body 8.6x3.9mm, Pitch 1.27mm, IPC High Density)
footprint M14A_M (SOIC, 14-Leads, Body 8.6x3.9mm, Pitch 1.27mm, IPC Low Density)
3D model M14A (14-Pin Small Outline Integrated Circuit 1.27 mm Pitch)
simulation model FSC_74LS38 (SIMCODE)
signal-integrity model DM7438M
pins on every part: 7 GND (power) hidden to GND, 14 VCC (power) hidden to VCC
part A pins: 1 A (in), 2 B (in), 3 Y (oc)
part B pins: 4 A (in), 5 B (in), 6 Y (oc)
part C pins: 8 Y (oc), 9 A (in), 10 B (in)
part D pins: 11 Y (oc), 12 A (in), 13 B (in)

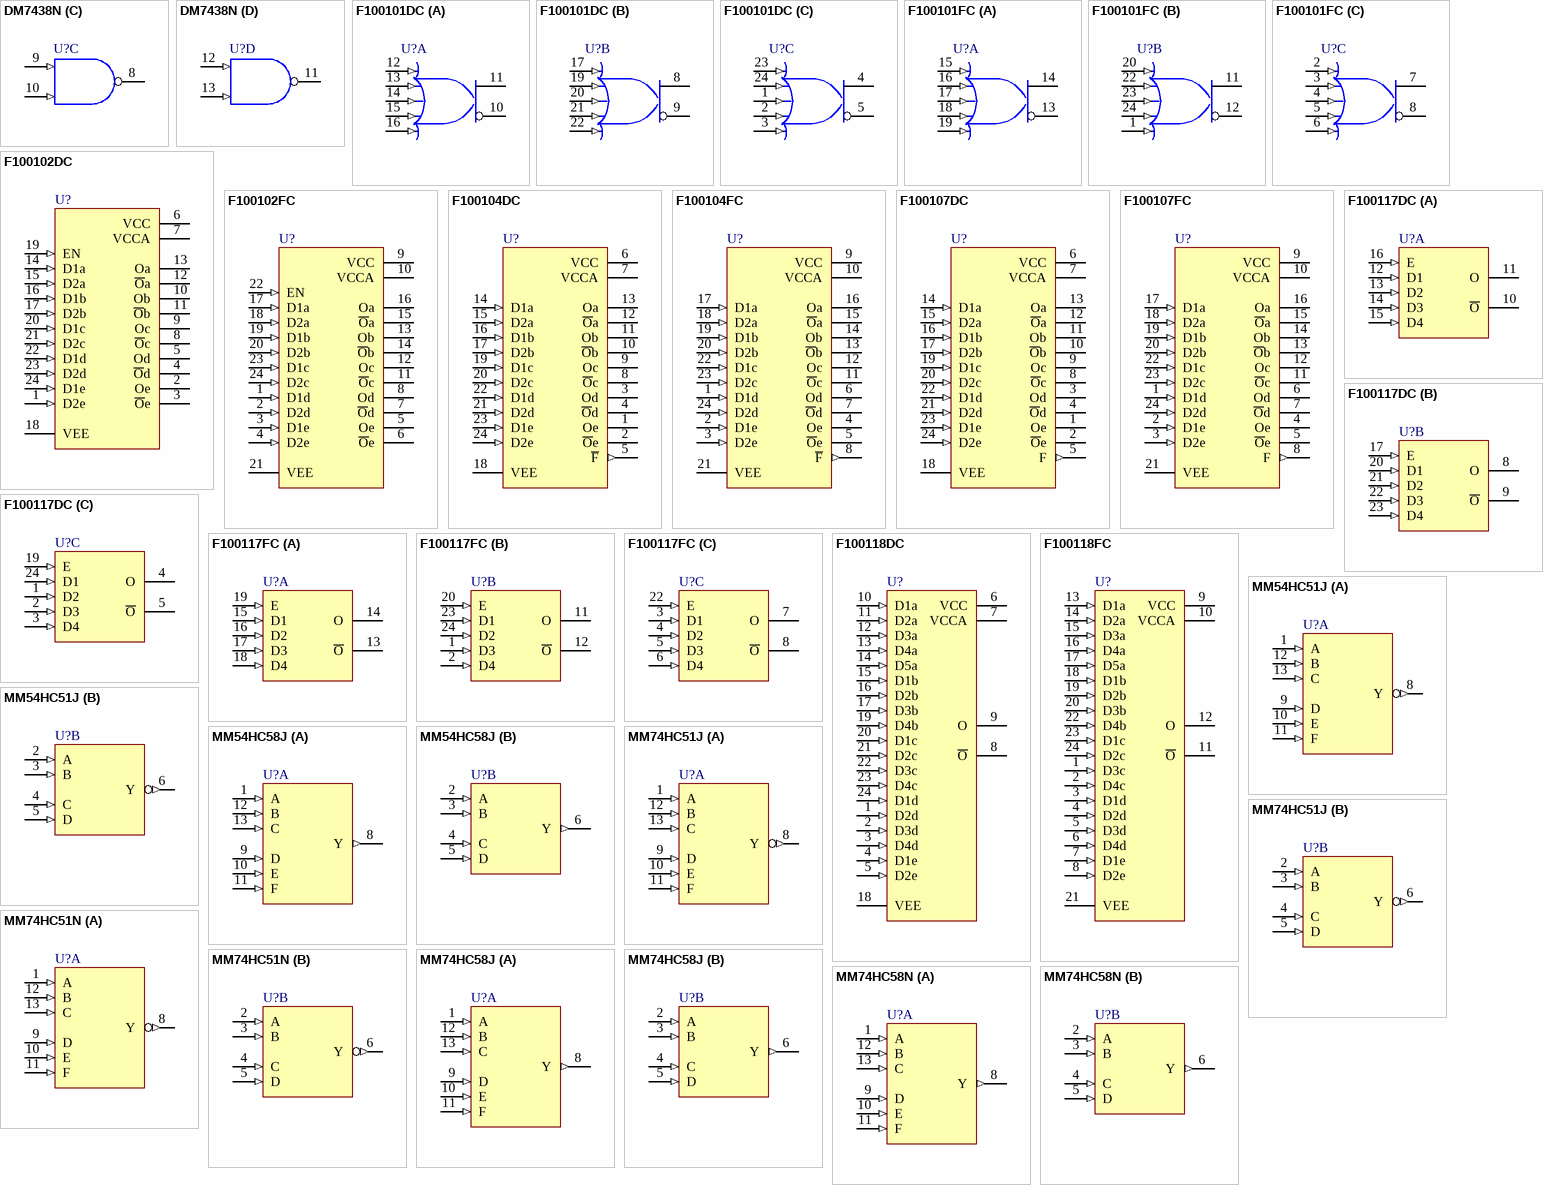
[diagram p31: symbols DM7438N to MM74HC58N]

## DM7438N
designator U?
Quad 2-Input NAND Buffer with Open-Collector Output, 14-Pin PDIP; IC_Technology: TTL; Published: 17-Jul-2002; LatestRevisionDate: 29-May-2009; LatestRevisionNote: Component Body Added.; DatasheetVersion: Mar-1998; PackageVersion: 2000; PackageReference: N14A; Publisher: Altium Limited; PackageDescription: DIP, 14-Pin, Row Spacing 7.62 mm, Pitch 2.54 mm; ComponentLink1Description: Manufacturer Link; ComponentLink1URL: http://www.fairchildsemi.com/
footprint N14A (DIP, 14-Leads, Row Spacing 7.62mm, Pitch 2.54mm, Body 19.18x6.35mm)
3D model N14A (DIP, 14-Pin, Row Spacing 7.62 mm, Pitch 2.54 mm)
simulation model FSC_74LS38 (SIMCODE)
signal-integrity model DM7438N
pins on every part: 7 GND (power) hidden to GND, 14 VCC (power) hidden to VCC
part A pins: 1 A (in), 2 B (in), 3 Y (oc)
part B pins: 4 A (in), 5 B (in), 6 Y (oc)
part C pins: 8 Y (oc), 9 A (in), 10 B (in)
part D pins: 11 Y (oc), 12 A (in), 13 B (in)

## F100101DC
designator U?
Triple 5-Input OR/NOR Gate, 24-Pin CDIP, Commercial Grade; IC_Technology: ECL; Note: All inputs have 50k Ohm pull-down resistors. VCC = VCCA = GND.; Published: 17-Jul-2002; LatestRevisionDate: 29-May-2009; LatestRevisionNote: Component Body Added.; DatasheetVersion: 1986; PackageVersion: 1986; PackageReference: 6Y; Publisher: Altium Limited; PackageDescription: DIP, 24-Pin, Row Spacing 10.16 mm, Pitch 2.54 mm; ComponentLink1Description: Manufacturer Link; ComponentLink1URL: http://www.fairchildsemi.com/
footprint 6Y (DIP, 24-Leads, Row Spacing 10.16mm, Pitch 2.54mm, Body 30.57x9.89mm)
3D model 6Y (DIP, 24-Pin, Row Spacing 10.16 mm, Pitch 2.54 mm)
pins on every part: 6 VCC (power) hidden to VCC, 7 VCCA (power) hidden to VCCA, 18 VEE (power) hidden to VEE
part A pins: 10 ~{OUT} (oe), 11 OUT (oe), 12 D1 (in), 13 D2 (in), 14 D3 (in), 15 D4 (in), 16 D5 (in)
part B pins: 8 OUT (oe), 9 ~{OUT} (oe), 17 D1 (in), 19 D2 (in), 20 D3 (in), 21 D4 (in), 22 D5 (in)
part C pins: 1 D3 (in), 2 D4 (in), 3 D5 (in), 4 OUT (oe), 5 ~{OUT} (oe), 23 D1 (in), 24 D2 (in)

## F100101FC
designator U?
Triple 5-Input OR/NOR Gate, 24-Pin CQFP, Commercial Grade; IC_Technology: ECL; Note: All inputs have 50k Ohm pull-down resistors. VCC = VCCA = GND.; Published: 17-Jul-2002; LatestRevisionDate: 13-Apr-2006; LatestRevisionNote: IPC-7351 Footprint Added.; DatasheetVersion: 1986; PackageVersion: 1986; PackageReference: 4V; Publisher: Altium Limited; PackageDescription: 100-Pin Quad Cerpak 1.27 mm Pitch; ComponentLink1Description: Manufacturer Link; ComponentLink1URL: http://www.fairchildsemi.com/
footprint 4V_N (CQFP, 24-Leads, Body 10x10mm; Pitch 1.27mm, Gullwing Leadform, IPC Medium Density)
footprint 4V_L (CQFP, 24-Leads, Body 10x10mm; Pitch 1.27mm, Gullwing Leadform, IPC High Density)
footprint 4V_M (CQFP, 24-Leads, Body 10x10mm; Pitch 1.27mm, Gullwing Leadform, IPC Low Density)
3D model F100101-4V (100-Pin Quad Cerpak 1.27 mm Pitch)
pins on every part: 9 VCC (power) hidden to VCC, 10 VCCA (power) hidden to VCCA, 21 VEE (power) hidden to VEE
part A pins: 13 ~{OUT} (oe), 14 OUT (oe), 15 D1 (in), 16 D2 (in), 17 D3 (in), 18 D4 (in), 19 D5 (in)
part B pins: 1 D5 (in), 11 OUT (oe), 12 ~{OUT} (oe), 20 D1 (in), 22 D2 (in), 23 D3 (in), 24 D4 (in)
part C pins: 2 D1 (in), 3 D2 (in), 4 D3 (in), 5 D4 (in), 6 D5 (in), 7 OUT (oe), 8 ~{OUT} (oe)

## F100102DC
designator U?
Quint 2-Input OR/NOR Gate, 24-Pin CDIP, Commercial Grade; IC_Technology: ECL; Note: All inputs have 50k Ohm pull-down resistors. VCC = VCCA = GND.; Published: 17-Jul-2002; LatestRevisionDate: 29-May-2009; LatestRevisionNote: Component Body Added.; DatasheetVersion: 1986; PackageVersion: 1986; PackageReference: 6Y; Publisher: Altium Limited; PackageDescription: DIP, 24-Pin, Row Spacing 10.16 mm, Pitch 2.54 mm; ComponentLink1Description: Manufacturer Link; ComponentLink1URL: http://www.fairchildsemi.com/
footprint 6Y (DIP, 24-Leads, Row Spacing 10.16mm, Pitch 2.54mm, Body 30.57x9.89mm)
3D model 6Y (DIP, 24-Pin, Row Spacing 10.16 mm, Pitch 2.54 mm)
pins: 1 D2e (in), 2 Oe (oe), 3 ~{O}e (oe), 4 ~{O}d (oe), 5 Od (oe), 6 VCC (power), 7 VCCA (power), 8 ~{O}c (oe), 9 Oc (oe), 10 Ob (oe), 11 ~{O}b (oe), 12 ~{O}a (oe), 13 Oa (oe), 14 D1a (in), 15 D2a (in), 16 D1b (in), 17 D2b (in), 18 VEE (power), 19 EN (in), 20 D1c (in), 21 D2c (in), 22 D1d (in), 23 D2d (in), 24 D1e (in)

## F100102FC
designator U?
Quint 2-Input OR/NOR Gate, 24-Pin CQFP, Commercial Grade; IC_Technology: ECL; Note: All inputs have 50k Ohm pull-down resistors. VCC = VCCA = GND.; Published: 17-Jul-2002; LatestRevisionDate: 13-Apr-2006; LatestRevisionNote: IPC-7351 Footprint Added.; DatasheetVersion: 1986; PackageVersion: 1986; PackageReference: 4V; Publisher: Altium Limited; PackageDescription: 100-Pin Quad Cerpak 1.27 mm Pitch; ComponentLink1Description: Manufacturer Link; ComponentLink1URL: http://www.fairchildsemi.com/
footprint 4V_N (CQFP, 24-Leads, Body 10x10mm; Pitch 1.27mm, Gullwing Leadform, IPC Medium Density)
footprint 4V_L (CQFP, 24-Leads, Body 10x10mm; Pitch 1.27mm, Gullwing Leadform, IPC High Density)
footprint 4V_M (CQFP, 24-Leads, Body 10x10mm; Pitch 1.27mm, Gullwing Leadform, IPC Low Density)
3D model F100102-4V (100-Pin Quad Cerpak 1.27 mm Pitch)
pins: 1 D1d (in), 2 D2d (in), 3 D1e (in), 4 D2e (in), 5 Oe (oe), 6 ~{O}e (oe), 7 ~{O}d (oe), 8 Od (oe), 9 VCC (power), 10 VCCA (power), 11 ~{O}c (oe), 12 Oc (oe), 13 Ob (oe), 14 ~{O}b (oe), 15 ~{O}a (oe), 16 Oa (oe), 17 D1a (in), 18 D2a (in), 19 D1b (in), 20 D2b (in), 21 VEE (power), 22 EN (in), 23 D1c (in), 24 D2c (in)

## F100104DC
designator U?
Quint AND/NAND Gate, 24-Pin CDIP, Commercial Grade; IC_Technology: ECL; Published: 17-Jul-2002; LatestRevisionDate: 29-May-2009; LatestRevisionNote: Component Body Added.; DatasheetVersion: 1986; PackageVersion: 1986; PackageReference: 6Y; Publisher: Altium Limited; PackageDescription: DIP, 24-Pin, Row Spacing 10.16 mm, Pitch 2.54 mm; ComponentLink1Description: Manufacturer Link; ComponentLink1URL: http://www.fairchildsemi.com/
footprint 6Y (DIP, 24-Leads, Row Spacing 10.16mm, Pitch 2.54mm, Body 30.57x9.89mm)
3D model 6Y (DIP, 24-Pin, Row Spacing 10.16 mm, Pitch 2.54 mm)
pins: 1 Oe (oe), 2 ~{O}e (oe), 3 Od (oe), 4 ~{O}d (oe), 5 ~{F} (out), 6 VCC (power), 7 VCCA (power), 8 ~{O}c (oe), 9 Oc (oe), 10 ~{O}b (oe), 11 Ob (oe), 12 ~{O}a (oe), 13 Oa (oe), 14 D1a (in), 15 D2a (in), 16 D1b (in), 17 D2b (in), 18 VEE (power), 19 D1c (in), 20 D2c (in), 21 D2d (in), 22 D1d (in), 23 D1e (in), 24 D2e (in)

## F100104FC
designator U?
Quint AND/NAND Gate, 24-Pin CQFP, Commercial Grade; IC_Technology: ECL; Published: 17-Jul-2002; LatestRevisionDate: 13-Apr-2006; LatestRevisionNote: IPC-7351 Footprint Added.; DatasheetVersion: 1986; PackageVersion: 1986; PackageReference: 4V; Publisher: Altium Limited; PackageDescription: 100-Pin Quad Cerpak 1.27 mm Pitch; ComponentLink1Description: Manufacturer Link; ComponentLink1URL: http://www.fairchildsemi.com/
footprint 4V_N (CQFP, 24-Leads, Body 10x10mm; Pitch 1.27mm, Gullwing Leadform, IPC Medium Density)
footprint 4V_L (CQFP, 24-Leads, Body 10x10mm; Pitch 1.27mm, Gullwing Leadform, IPC High Density)
footprint 4V_M (CQFP, 24-Leads, Body 10x10mm; Pitch 1.27mm, Gullwing Leadform, IPC Low Density)
3D model F100104-4V (100-Pin Quad Cerpak 1.27 mm Pitch)
pins: 1 D1d (in), 2 D1e (in), 3 D2e (in), 4 Oe (oe), 5 ~{O}e (oe), 6 Od (oe), 7 ~{O}d (oe), 8 ~{F} (out), 9 VCC (power), 10 VCCA (power), 11 ~{O}c (oe), 12 Oc (oe), 13 ~{O}b (oe), 14 Ob (oe), 15 ~{O}a (oe), 16 Oa (oe), 17 D1a (in), 18 D2a (in), 19 D1b (in), 20 D2b (in), 21 VEE (power), 22 D1c (in), 23 D2c (in), 24 D2d (in)

## F100107DC
designator U?
Quint Exclusive OR/NOR Gate, 24-Pin CDIP, Commercial Grade; IC_Technology: ECL; Published: 17-Jul-2002; LatestRevisionDate: 29-May-2009; LatestRevisionNote: Component Body Added.; DatasheetVersion: 1986; PackageVersion: 1986; PackageReference: 6Y; Publisher: Altium Limited; PackageDescription: DIP, 24-Pin, Row Spacing 10.16 mm, Pitch 2.54 mm; ComponentLink1Description: Manufacturer Link; ComponentLink1URL: http://www.fairchildsemi.com/
footprint 6Y (DIP, 24-Leads, Row Spacing 10.16mm, Pitch 2.54mm, Body 30.57x9.89mm)
3D model 6Y (DIP, 24-Pin, Row Spacing 10.16 mm, Pitch 2.54 mm)
pins: 1 Oe (oe), 2 ~{O}e (oe), 3 Od (oe), 4 ~{O}d (oe), 5 F (out), 6 VCC (power), 7 VCCA (power), 8 ~{O}c (oe), 9 Oc (oe), 10 ~{O}b (oe), 11 Ob (oe), 12 ~{O}a (oe), 13 Oa (oe), 14 D1a (in), 15 D2a (in), 16 D1b (in), 17 D2b (in), 18 VEE (power), 19 D1c (in), 20 D2c (in), 21 D2d (in), 22 D1d (in), 23 D1e (in), 24 D2e (in)

## F100107FC
designator U?
Quint Exclusive OR/NOR Gate, 24-Pin CQFP, Commercial Grade; IC_Technology: ECL; Published: 17-Jul-2002; LatestRevisionDate: 13-Apr-2006; LatestRevisionNote: IPC-7351 Footprint Added.; DatasheetVersion: 1986; PackageVersion: 1986; PackageReference: 4V; Publisher: Altium Limited; PackageDescription: 100-Pin Quad Cerpak 1.27 mm Pitch; ComponentLink1Description: Manufacturer Link; ComponentLink1URL: http://www.fairchildsemi.com/
footprint 4V_N (CQFP, 24-Leads, Body 10x10mm; Pitch 1.27mm, Gullwing Leadform, IPC Medium Density)
footprint 4V_L (CQFP, 24-Leads, Body 10x10mm; Pitch 1.27mm, Gullwing Leadform, IPC High Density)
footprint 4V_M (CQFP, 24-Leads, Body 10x10mm; Pitch 1.27mm, Gullwing Leadform, IPC Low Density)
3D model F100107-4V (100-Pin Quad Cerpak 1.27 mm Pitch)
pins: 1 D1d (in), 2 D1e (in), 3 D2e (in), 4 Oe (oe), 5 ~{O}e (oe), 6 Od (oe), 7 ~{O}d (oe), 8 F (out), 9 VCC (power), 10 VCCA (power), 11 ~{O}c (oe), 12 Oc (oe), 13 ~{O}b (oe), 14 Ob (oe), 15 ~{O}a (oe), 16 Oa (oe), 17 D1a (in), 18 D2a (in), 19 D1b (in), 20 D2b (in), 21 VEE (power), 22 D1c (in), 23 D2c (in), 24 D2d (in)

## F100117DC
designator U?
Triple 2-Wide OA/OAI Gate, 24-Pin CDIP, Commercial Grade; IC_Technology: ECL; Note: All inputs have 50k Ohm pull-down resistors. VCC = VCCA = GND.; Published: 17-Jul-2002; LatestRevisionDate: 29-May-2009; LatestRevisionNote: Component Body Added.; DatasheetVersion: 1986; PackageVersion: 1986; PackageReference: 6Y; Publisher: Altium Limited; PackageDescription: DIP, 24-Pin, Row Spacing 10.16 mm, Pitch 2.54 mm; ComponentLink1Description: Manufacturer Link; ComponentLink1URL: http://www.fairchildsemi.com/
footprint 6Y (DIP, 24-Leads, Row Spacing 10.16mm, Pitch 2.54mm, Body 30.57x9.89mm)
3D model 6Y (DIP, 24-Pin, Row Spacing 10.16 mm, Pitch 2.54 mm)
pins on every part: 6 VCC (power) hidden to VCC, 7 VCCA (power) hidden to VCCA, 18 VEE (power) hidden to VEE
part A pins: 10 ~{O} (oe), 11 O (oe), 12 D1 (in), 13 D2 (in), 14 D3 (in), 15 D4 (in), 16 E (in)
part B pins: 8 O (oe), 9 ~{O} (oe), 17 E (in), 20 D1 (in), 21 D2 (in), 22 D3 (in), 23 D4 (in)
part C pins: 1 D2 (in), 2 D3 (in), 3 D4 (in), 4 O (oe), 5 ~{O} (oe), 19 E (in), 24 D1 (in)

## F100117FC
designator U?
Triple 2-Wide OA/OAI Gate, 24-Pin CQFP, Commercial Grade; IC_Technology: ECL; Note: All inputs have 50k Ohm pull-down resistors. VCC = VCCA = GND.; Published: 17-Jul-2002; LatestRevisionDate: 13-Apr-2006; LatestRevisionNote: IPC-7351 Footprint Added.; DatasheetVersion: 1986; PackageVersion: 1986; PackageReference: 4V; Publisher: Altium Limited; PackageDescription: 100-Pin Quad Cerpak 1.27 mm Pitch; ComponentLink1Description: Manufacturer Link; ComponentLink1URL: http://www.fairchildsemi.com/
footprint 4V_N (CQFP, 24-Leads, Body 10x10mm; Pitch 1.27mm, Gullwing Leadform, IPC Medium Density)
footprint 4V_L (CQFP, 24-Leads, Body 10x10mm; Pitch 1.27mm, Gullwing Leadform, IPC High Density)
footprint 4V_M (CQFP, 24-Leads, Body 10x10mm; Pitch 1.27mm, Gullwing Leadform, IPC Low Density)
3D model F100117-4V (100-Pin Quad Cerpak 1.27 mm Pitch)
pins on every part: 9 VCC (power) hidden to VCC, 10 VCCA (power) hidden to VCCA, 21 VEE (power) hidden to VEE
part A pins: 13 ~{O} (oe), 14 O (oe), 15 D1 (in), 16 D2 (in), 17 D3 (in), 18 D4 (in), 19 E (in)
part B pins: 1 D3 (in), 2 D4 (in), 11 O (oe), 12 ~{O} (oe), 20 E (in), 23 D1 (in), 24 D2 (in)
part C pins: 3 D1 (in), 4 D2 (in), 5 D3 (in), 6 D4 (in), 7 O (oe), 8 ~{O} (oe), 22 E (in)

## F100118DC
designator U?
5-Wide 5, 4, 4, 4, 2 OA/OAI Gate, 24-Pin CDIP, Commercial Grade; IC_Technology: ECL; Note: All inputs have 50k Ohm pull-down resistors. VCC = VCCA = GND.; Published: 17-Jul-2002; LatestRevisionDate: 29-May-2009; LatestRevisionNote: Component Body Added.; DatasheetVersion: 1986; PackageVersion: 1986; PackageReference: 6Y; Publisher: Altium Limited; PackageDescription: DIP, 24-Pin, Row Spacing 10.16 mm, Pitch 2.54 mm; ComponentLink1Description: Manufacturer Link; ComponentLink1URL: http://www.fairchildsemi.com/
footprint 6Y (DIP, 24-Leads, Row Spacing 10.16mm, Pitch 2.54mm, Body 30.57x9.89mm)
3D model 6Y (DIP, 24-Pin, Row Spacing 10.16 mm, Pitch 2.54 mm)
pins: 1 D2d (in), 2 D3d (in), 3 D4d (in), 4 D1e (in), 5 D2e (in), 6 VCC (power), 7 VCCA (power), 8 ~{O} (oe), 9 O (oe), 10 D1a (in), 11 D2a (in), 12 D3a (in), 13 D4a (in), 14 D5a (in), 15 D1b (in), 16 D2b (in), 17 D3b (in), 18 VEE (power), 19 D4b (in), 20 D1c (in), 21 D2c (in), 22 D3c (in), 23 D4c (in), 24 D1d (in)

## F100118FC
designator U?
5-Wide 5, 4, 4, 4, 2 OA/OAI Gate, 24-Pin CQFP, Commercial Grade; IC_Technology: ECL; Note: All inputs have 50k Ohm pull-down resistors. VCC = VCCA = GND.; Published: 17-Jul-2002; LatestRevisionDate: 13-Apr-2006; LatestRevisionNote: IPC-7351 Footprint Added.; DatasheetVersion: 1986; PackageVersion: 1986; PackageReference: 4V; Publisher: Altium Limited; PackageDescription: 100-Pin Quad Cerpak 1.27 mm Pitch; ComponentLink1Description: Manufacturer Link; ComponentLink1URL: http://www.fairchildsemi.com/
footprint 4V_N (CQFP, 24-Leads, Body 10x10mm; Pitch 1.27mm, Gullwing Leadform, IPC Medium Density)
footprint 4V_L (CQFP, 24-Leads, Body 10x10mm; Pitch 1.27mm, Gullwing Leadform, IPC High Density)
footprint 4V_M (CQFP, 24-Leads, Body 10x10mm; Pitch 1.27mm, Gullwing Leadform, IPC Low Density)
3D model F100118-4V (100-Pin Quad Cerpak 1.27 mm Pitch)
pins: 1 D3c (in), 2 D4c (in), 3 D1d (in), 4 D2d (in), 5 D3d (in), 6 D4d (in), 7 D1e (in), 8 D2e (in), 9 VCC (power), 10 VCCA (power), 11 ~{O} (oe), 12 O (oe), 13 D1a (in), 14 D2a (in), 15 D3a (in), 16 D4a (in), 17 D5a (in), 18 D1b (in), 19 D2b (in), 20 D3b (in), 21 VEE (power), 22 D4b (in), 23 D1c (in), 24 D2c (in)

## MM54HC51J
designator U?
Dual AND-OR-Invert Gate, 14-Pin CDIP, Military Grade; IC_Technology: HC; Published: 17-Jul-2002; LatestRevisionDate: 29-May-2009; LatestRevisionNote: Component Body Added.; DatasheetVersion: Apr-1998; PackageVersion: 2000; PackageReference: J14A; Publisher: Altium Limited; PackageDescription: CerDIP, 14-Pin, Row Spacing 7.62 mm, Pitch 2.54 mm; ComponentLink1Description: Manufacturer Link; ComponentLink1URL: http://www.fairchildsemi.com/
footprint J14A (DIP, 14-Leads, Row Spacing 7.62mm, Pitch 2.54mm, Body 19.56x6.73mm)
3D model J14A (CerDIP, 14-Pin, Row Spacing 7.62 mm, Pitch 2.54 mm)
signal-integrity model MM54HC51J
pins on every part: 7 GND (power) hidden to GND, 14 VCC (power) hidden to VCC
part A pins: 1 A (in), 8 Y (out), 9 D (in), 10 E (in), 11 F (in), 12 B (in), 13 C (in)
part B pins: 2 A (in), 3 B (in), 4 C (in), 5 D (in), 6 Y (out)

## MM54HC58J
designator U?
Dual AND-OR Gate, 14-Pin CDIP, Military Grade; IC_Technology: HC; Published: 17-Jul-2002; LatestRevisionDate: 29-May-2009; LatestRevisionNote: Component Body Added.; DatasheetVersion: Apr-1998; PackageVersion: 2000; PackageReference: J14A; Publisher: Altium Limited; PackageDescription: CerDIP, 14-Pin, Row Spacing 7.62 mm, Pitch 2.54 mm; ComponentLink1Description: Manufacturer Link; ComponentLink1URL: http://www.fairchildsemi.com/
footprint J14A (DIP, 14-Leads, Row Spacing 7.62mm, Pitch 2.54mm, Body 19.56x6.73mm)
3D model J14A (CerDIP, 14-Pin, Row Spacing 7.62 mm, Pitch 2.54 mm)
signal-integrity model MM54HC58J
pins on every part: 7 GND (power) hidden to GND, 14 VCC (power) hidden to VCC
part A pins: 1 A (in), 8 Y (out), 9 D (in), 10 E (in), 11 F (in), 12 B (in), 13 C (in)
part B pins: 2 A (in), 3 B (in), 4 C (in), 5 D (in), 6 Y (out)

## MM74HC51J
designator U?
Dual AND-OR-Invert Gate, 14-Pin CDIP; IC_Technology: HC; Published: 17-Jul-2002; LatestRevisionDate: 29-May-2009; LatestRevisionNote: Component Body Added.; DatasheetVersion: Apr-1998; PackageVersion: 2000; PackageReference: J14A; Publisher: Altium Limited; PackageDescription: CerDIP, 14-Pin, Row Spacing 7.62 mm, Pitch 2.54 mm; ComponentLink1Description: Manufacturer Link; ComponentLink1URL: http://www.fairchildsemi.com/
footprint J14A (DIP, 14-Leads, Row Spacing 7.62mm, Pitch 2.54mm, Body 19.56x6.73mm)
3D model J14A (CerDIP, 14-Pin, Row Spacing 7.62 mm, Pitch 2.54 mm)
signal-integrity model MM74HC51J
pins on every part: 7 GND (power) hidden to GND, 14 VCC (power) hidden to VCC
part A pins: 1 A (in), 8 Y (out), 9 D (in), 10 E (in), 11 F (in), 12 B (in), 13 C (in)
part B pins: 2 A (in), 3 B (in), 4 C (in), 5 D (in), 6 Y (out)

## MM74HC51N
designator U?
2-Wide, 2-Input/2-Wide, 3-Input AND-NOR Gate, 14-Pin PDIP; IC_Technology: HC; Published: 17-Jul-2002; LatestRevisionDate: 29-May-2009; LatestRevisionNote: Component Body Added.; DatasheetVersion: Apr-1998; PackageVersion: 2000; PackageReference: N14A; Publisher: Altium Limited; PackageDescription: DIP, 14-Pin, Row Spacing 7.62 mm, Pitch 2.54 mm; ComponentLink1Description: Manufacturer Link; ComponentLink1URL: http://www.fairchildsemi.com/
footprint N14A (DIP, 14-Leads, Row Spacing 7.62mm, Pitch 2.54mm, Body 19.18x6.35mm)
3D model N14A (DIP, 14-Pin, Row Spacing 7.62 mm, Pitch 2.54 mm)
signal-integrity model MM74HC51N
pins on every part: 7 GND (power) hidden to GND, 14 VCC (power) hidden to VCC
part A pins: 1 A (in), 8 Y (out), 9 D (in), 10 E (in), 11 F (in), 12 B (in), 13 C (in)
part B pins: 2 A (in), 3 B (in), 4 C (in), 5 D (in), 6 Y (out)